# EAGLE library part AP1509-33SG-13 (library power)
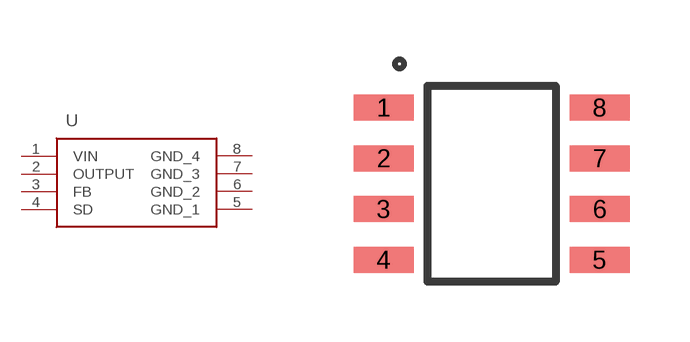
[diagram p2: symbol with the pads of SOP-8L; footprint SOP-8L]

Designator prefix -

## AP1509-33SG-13  [SOP-8L]
1  VIN
2  OUTPUT
3  FB
4  SD
5  GND_1
6  GND_2
7  GND_3
8  GND_4

## Footprint SOP-8L (pad centres in mm)
smd 1.5 x 0.65: 1 -2.7,1.905; 2 -2.7,0.635; 3 -2.7,-0.635; 4 -2.7,-1.905; 5 2.7,-1.905; 6 2.7,-0.635; 7 2.7,0.635; 8 2.7,1.905